# Altium footprint library WePcbLib.PcbLib: 177 footprints (part 10 of 12)
Each footprint in its own frame and in the unit in brackets; x right, y up, seen from the top. Pads: shape width x height; smd on the part's side, far side on the other; paste and mask are expansions set on the pad; w line width, h text height; cw(c..) or ccw(c..) is an arc to the next point about the centre after c.
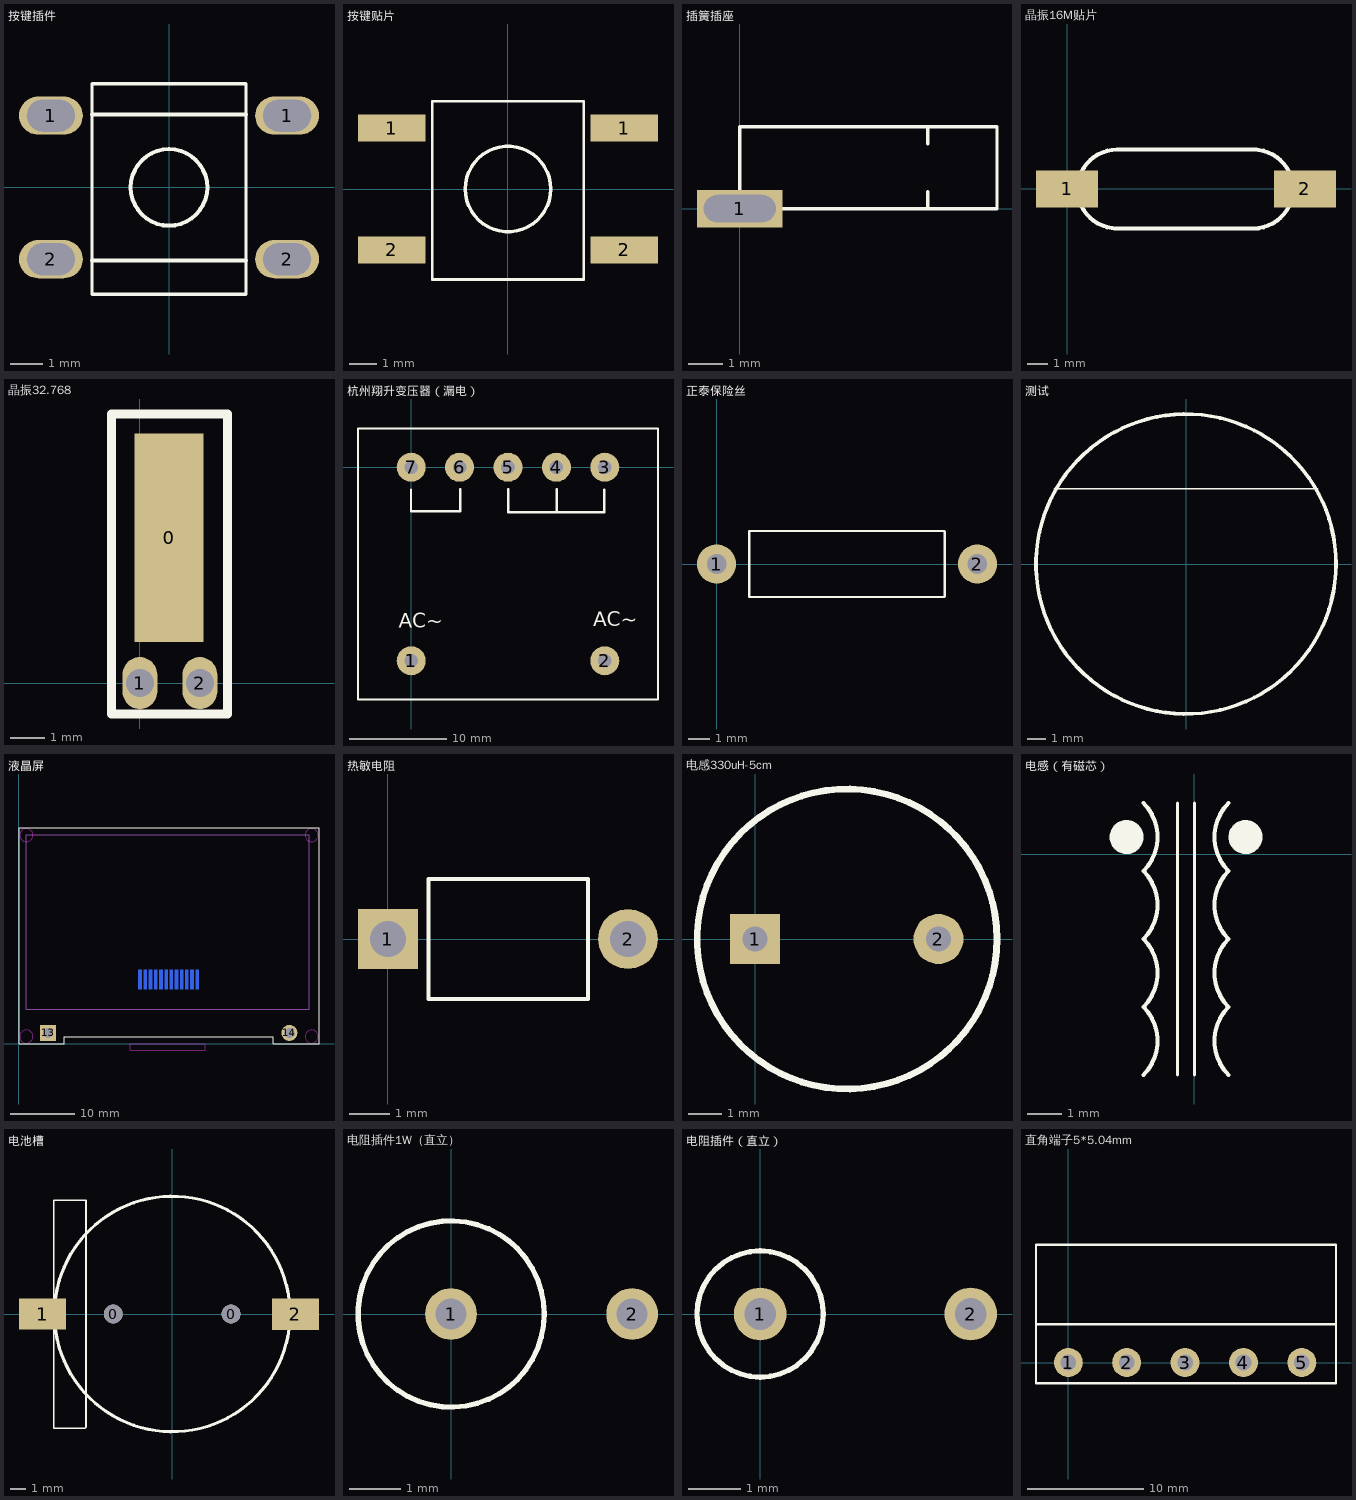
[diagram p9: the footprints below, top view; thin cyan lines are the x and y axes]

## 按键插件 [mm]
pads (4):
  oval 2x1.2 hole 1 slot 1.5 at 0 deg: 1(-3.7,2.25) 1(3.7,2.25) 2(-3.7,-2.25) 2(3.7,-2.25)
Top Overlay:
  circle w0.127: c0,0 r1.2
  lines w0.1: -2.413,-3.35 2.413,-3.35 2.413,3.25 -2.413,3.25 -2.413,-3.35
  lines w0.127: -2.413,-2.286 2.413,-2.286 ; -2.413,2.286 2.413,2.286

## 按键贴片 [mm]
height 4.6
pads (4):
  rect 2.5x1 smd: 1(-4.3,2.25) 1(4.3,2.25) 2(-4.3,-2.25) 2(4.3,-2.25)
Top Overlay:
  circle w0.127: c0,0 r1.581
  lines w0.1: -2.8,-3.35 -2.8,3.25 2.8,3.25 2.8,-3.35 -2.8,-3.35

## 插簧插座 [mm]
pads (1):
  rect 2.5x1.1 hole 0.8 slot 2.1 at 0 deg: 1(0,0)
Top Overlay:
  lines w0.1: 5.5,0.025 5.5,0.5 ; 5.5,1.9 5.5,2.4 ; 0,0 7.525,0 7.525,2.4 0,2.4 0,0

## 晶振16M贴片 [mm]
pads (2):
  rect 3x1.8 smd: 1(0,0) 2(11.5,0)
Top Overlay:
  lines w0.203: 2.3,-1.905 9.271,-1.905 ; 2.413,-1.905 cw(c2.413,0) 2.413,1.905 ; 2.427,1.905 9.158,1.905 ; 9.017,-1.905 ccw(c9.017,0) 9.017,1.905

## 晶振32.768 [mm]
pads (3):
  rect 2x6 smd: 0(0.838,4.191)
  oval 1x1.5 hole 0.8: 1(0,0) 2(1.727,0)
Top Overlay:
  lines w0.254: -0.813,-0.889 2.521,-0.889 2.521,7.747 -0.813,7.747 -0.813,-0.889

## 杭州翔升变压器（漏电） [mm]
pads (7):
  round 3 hole 1.4: 1(0,-20) 2(20,-20) 3(20,0) 4(15,0) 5(10,0) 6(5,0) 7(0,0)
Top Overlay:
  lines w0.254: -0.025,-2.311 -0.025,-4.547 5.055,-4.547 5.055,-2.286 ; 10.033,-2.286 10.033,-4.674 19.964,-4.674 19.964,-2.311 ; 15.037,-4.674 15.037,-2.286 ; -5.5,-24 -5.5,4 25.5,4 25.5,-24 -5.5,-24
  text "AC~" at 18.796,-16.408 h1.52
  text "AC~" at -1.295,-16.612 h1.52

## 正泰保险丝 [mm]
pads (2):
  round 1.8 hole 0.9: 1(0,0) 2(12,0)
Top Overlay:
  lines w0.1: 1.5,-1.525 10.475,-1.525 ; 1.5,-1.5 1.5,1.5 ; 1.5,1.525 10.475,1.525 ; 10.5,-1.5 10.5,1.5

## 测试 [mm]
Top Overlay:
  circle w0.2: c0,0 r8.1
  lines w0.1: 0,4.064 -7.112,4.064 7.112,4.064

## 液晶屏 [mm] "1813*1300mil"
height 5.182
pads (14):
  rect 0.5x3 smd far side: 1(27.61,9.957) 2(26.81,9.957) 3(26.01,9.957) 4(25.21,9.957) 5(24.41,9.957) 6(23.61,9.957) 7(22.81,9.957) 8(22.01,9.957) 9(21.21,9.957) 10(20.369,9.981) 11(19.569,9.981) 12(18.769,9.981)
  rect 2.5x2.5 hole 1.6: 13(4.51,1.703)
  round 2.5 hole 1.6: 14(41.91,1.703)
Top Overlay:
  lines w0.1: 6.995,0.003 0.01,0.003 0.01,33.531 46.492,33.531 46.492,0.003 39.41,0.003 39.41,1.146 ; 7.01,0.003 7.01,1.146 39.38,1.146
Keep-Out Layer:
  circle w0.127: c1.153,1.146 r1.016
  circle w0.127: c45.353,1.146 r1.016
  circle w0.127: c1.153,32.346 r1.016
  circle w0.127: c45.353,32.346 r1.016
  lines w0.102: 28.782,0.003 17.282,0.003 17.282,-1.013 28.839,-1.013 28.839,0.003
Mechanical 15:
  lines w0.127: 1.11,5.4 1.11,32.4 44.994,32.4 45.009,32.385 45.009,5.436 ; 1.118,5.41 45,5.41

## 热敏电阻 [mil]
height 181.1
pads (2):
  rect 59x59 hole 35.4: 1(0,0)
  round 59 hole 35.4: 2(236.22,0)
Top Overlay:
  lines w3.94: 40,-59 197,-59 197,59 40,59 40,-59

## 电感330uH-5cm [mm]
height 4.6
pads (2):
  rect 1.5x1.5 hole 0.75: 1(0,0)
  round 1.5 hole 0.75: 2(5.5,0)
Top Overlay:
  circle w0.2: c2.756,0 r4.5

## 电感（有磁芯） [mm]
Top Overlay:
  circle w0.5: c-2,0.5 r0.25
  circle w0.5: c1.5,0.5 r0.25
  lines w0.102: -0.5,-6.5 -0.5,1.5 ; 0,-6.5 0,1.5
  lines w0.127: -1.5,-6.5 ccw(c-2.5,-5.5) -1.5,-4.5 ccw(c-2.5,-3.5) -1.5,-2.5 ccw(c-2.5,-1.5) -1.5,-0.5 ccw(c-2.5,0.5) -1.5,1.5 ; 1,-6.5 cw(c2,-5.5) 1,-4.5 cw(c2,-3.5) 1,-2.5 cw(c2,-1.5) 1,-0.5 cw(c2,0.5) 1,1.5

## 电池槽 [mm]
height 4.6
pads (4):
  round 1.2 hole 1.2: 0(-3.747,0.007) 0(3.753,0.007)
  rect 3x2 smd: 1(-8.252,0.007) 2(7.852,-0.019)
Top Overlay:
  circle w0.203: c0.003,0.007 r7.5
  lines w0.1: -7.547,-7.258 -5.534,-7.258 -5.483,-7.207 -5.483,7.246 -7.547,7.246 -7.547,-7.258

## 电阻插件1W（直立） [mm]
pads (2):
  round 1 hole 0.6: 1(0,0) 2(3.5,0)
Top Overlay:
  circle w0.102: c0,0 r1.8

## 电阻插件（直立） [mm]
pads (2):
  round 1 hole 0.6: 1(0,0) 2(4,0)
Top Overlay:
  circle w0.1: c0,0 r1.2

## 直角端子5*5.04mm [mm]
pads (5):
  round 2.5 hole 1.35: 1(0,0) 2(5.04,0) 3(10.08,0) 4(15.12,0) 5(20.16,0)
Top Overlay:
  lines w0.2: -2.794,3.302 23.114,3.302 ; -2.794,-1.778 23.114,-1.778 23.114,10.16 -2.794,10.16 -2.794,-1.778